# EAGLE library part SN65HVD233DG4_SN65HVD233DG4 (library master_pi)
CAN TRANSCEIVERS
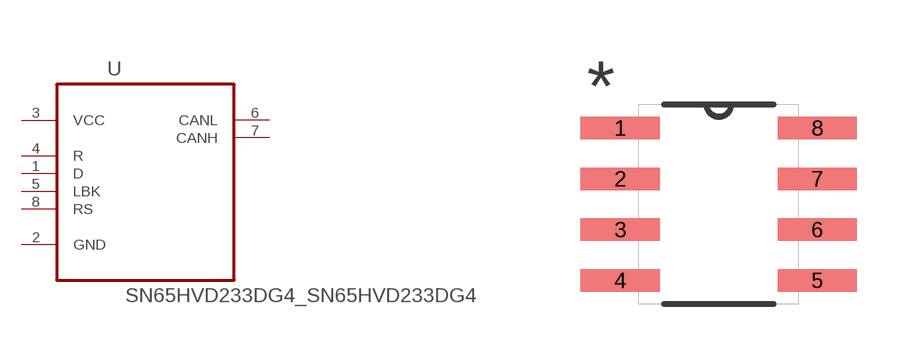
[diagram p0: symbol with the pads of SN65HVD233DG4_SOIC127P600X175-8N; footprint SN65HVD233DG4_SOIC127P600X175-8N]

Designator prefix U

## SN65HVD233DG4_SN65HVD233DG4 (MPN: SN65HVD233DG4; OC_FARNELL: 1207268; OC_NEWARK: 16M2304; PACKAGE: SOIC-8; SUPPLIER: TI)  [SN65HVD233DG4_SOIC127P600X175-8N]
1  D  in
2  GND  pas
3  VCC  pwr
4  R  in
5  LBK  pas
6  CANL  out
7  CANH  out
8  RS  in

## Footprint SN65HVD233DG4_SOIC127P600X175-8N (pad centres in mm)
smd 1.981 x 0.559: 1 -2.464,1.905; 2 -2.464,0.635; 3 -2.464,-0.635; 4 -2.464,-1.905; 5 2.464,-1.905; 6 2.464,-0.635; 7 2.464,0.635; 8 2.464,1.905